# Altium schematic symbol library BUZZER.SchLib: 1 symbol
Pins are listed as number, name and electrical type; pins without a type are passive.

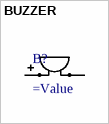
[diagram p0: symbol BUZZER]

## BUZZER
designator B?
=Description
pins: 1, 2